# EAGLE library part AVR-ISP-HEADER (library HyTechDevices)
AVR ISP 6-pin Header Reference <https://en.wikipedia.org/wiki/In-system_programming>
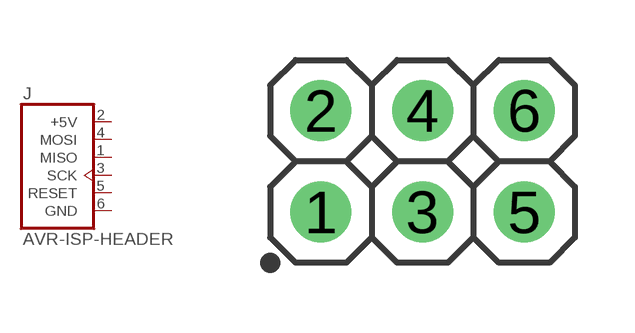
[diagram p34: symbol with the pads of 2X03; footprint 2X03]

Designator prefix J

## AVR-ISP-HEADER (DIGIKEY: S2011EC-03-ND)  [2X03]
1  MISO  in
2  +5V  pwr
3  SCK
4  MOSI  out
5  RESET
6  GND  pwr

## Footprint 2X03 (pad centres in mm)
PIN HEADER
drill 1.016: 1 -2.54,-1.27; 2 -2.54,1.27; 3 0,-1.27; 4 0,1.27; 5 2.54,-1.27; 6 2.54,1.27